# Altium integrated library AMP Serial Bus IEEE1394.IntLib: 7 symbols
Pins are listed as number, name and electrical type; pins without a type are passive.

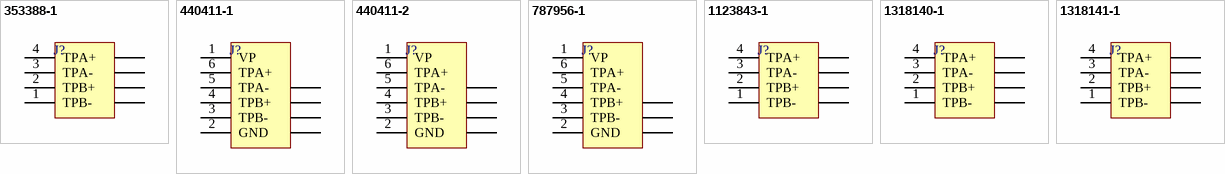
[diagram p0: symbols 353388-1 to 1318141-1]

## 353388-1
designator J?
IEEE1394, Vertical, Receptacle Header, DIP M1.6 Tap, 4 Position, 2.00 [.079] Termination Length; PCB_Layout: Complies with manufacturer's recommendation.; DrillSize: Corresponds to nominal value.; Published: 26-May-2004; LatestRevisionDate: 15-July-2004; LatestRevisionNote: Mounting hole pads re-numbered.; DatasheetDocument: 15-Jan-2004; PackageDocument: 15-Jan-2004; PackageReference: 353388-1; Publisher: Altium Limited; ComponentLink1Description: Manufacturer Link; ComponentLink1URL: http://www.tycoelectronics.com/; ComponentLink2Description: Packaging Specification; ComponentLink2URL: http://ecommas.tycoelectronics.com/commerce/DocumentDelivery/DDEController?Action=showdoc&DocId=Customer+Drawing%7F353388%7FH%7Ftif%7FJapanese%7FJPN_CD_353388_H.tif
footprint 353388-1 (Connector; IEEE1394, Thru-Hole; 4 Position; Vertical)
signal-integrity model IEEE1394
pins: 1 TPB- "Differential Twisted Pair", 2 TPB+ "Differential Twisted Pair", 3 TPA- "Differential Twisted Pair", 4 TPA+ "Differential Twisted Pair", 5 SHLD "Shield", 6 SHLD "Shield", 7 SHLD "Shield", 8 SHLD "Shield"

## 440411-1
designator J?
IEEE1394, Vertical, Receptacle Header, Thru-Hole, 6 Position, 2.70 [.106] Termination Length; PCB_Layout: Complies with manufacturer's recommendation.; DrillSize: Corresponds to nominal value.; Published: 26-May-2004; LatestRevisionDate: 15-July-2004; LatestRevisionNote: Mounting hole pads re-numbered.; DatasheetDocument: 28-Mar-2000; PackageDocument: 28-Mar-2000; PackageReference: 440411; Publisher: Altium Limited; ComponentLink1Description: Manufacturer Link; ComponentLink1URL: http://www.tycoelectronics.com/; ComponentLink2Description: Packaging Specification; ComponentLink2URL: http://ecommas.tycoelectronics.com/commerce/DocumentDelivery/DDEController?Action=showdoc&DocId=Customer+Drawing%7F440411%7FO%7Ftif%7FEnglish%7FC_440411_O.tif
footprint 440411 (Connector; IEEE1394, Thru-Hole; 6 Position; Vertical)
signal-integrity model IEEE1394
pins: 1 VP (power) "Power", 2 GND (power) "Ground", 3 TPB- "Differential Twisted Pair", 4 TPB+ "Differential Twisted Pair", 5 TPA- "Differential Twisted Pair", 6 TPA+ "Differential Twisted Pair", 7 SHLD "Shield", 8 SHLD "Shield", 9 SHLD "Shield", 10 SHLD "Shield"

## 440411-2
designator J?
IEEE1394, Vertical, Receptacle Header, Thru-Hole, 6 Position, 3.18 [.125] Termination Length; PCB_Layout: Complies with manufacturer's recommendation.; DrillSize: Corresponds to nominal value.; Published: 26-May-2004; LatestRevisionDate: 15-July-2004; LatestRevisionNote: Mounting hole pads re-numbered.; DatasheetDocument: 28-Mar-2000; PackageDocument: 28-Mar-2000; PackageReference: 440411; Publisher: Altium Limited; ComponentLink1Description: Manufacturer Link; ComponentLink1URL: http://www.tycoelectronics.com/; ComponentLink2Description: Packaging Specification; ComponentLink2URL: http://ecommas.tycoelectronics.com/commerce/DocumentDelivery/DDEController?Action=showdoc&DocId=Customer+Drawing%7F440411%7FO%7Ftif%7FEnglish%7FC_440411_O.tif
footprint 440411 (Connector; IEEE1394, Thru-Hole; 6 Position; Vertical)
signal-integrity model IEEE1394
pins: 1 VP (power) "Power", 2 GND (power) "Ground", 3 TPB- "Differential Twisted Pair", 4 TPB+ "Differential Twisted Pair", 5 TPA- "Differential Twisted Pair", 6 TPA+ "Differential Twisted Pair", 7 SHLD "Shield", 8 SHLD "Shield", 9 SHLD "Shield", 10 SHLD "Shield"

## 787956-1
designator J?
IEEE1394, Right Angle, Receptacle Header, Thru-Hole, 6 Position, 3.36 [.132] Termination Length; PCB_Layout: Complies with manufacturer's recommendation.; DrillSize: Corresponds to nominal value.; Published: 26-May-2004; LatestRevisionDate: 15-July-2004; LatestRevisionNote: Mounting hole pads re-numbered.; DatasheetDocument: 11-Jan-2004; PackageDocument: 11-Jan-2004; PackageReference: 787956-1; Publisher: Altium Limited; ComponentLink1Description: Manufacturer Link; ComponentLink1URL: http://www.tycoelectronics.com/; ComponentLink2Description: Packaging Specification; ComponentLink2URL: http://ecommas.tycoelectronics.com/commerce/DocumentDelivery/DDEController?Action=showdoc&DocId=Customer+Drawing%7F787956%7FK%7Ftif%7FEnglish%7FC_787956_K.tif
footprint 787956-1 (Connector; IEEE1394, Thru-Hole; 6 Position; Right Angle)
signal-integrity model IEEE1394
pins: 1 VP (power) "Power", 2 GND (power) "Ground", 3 TPB- "Differential Twisted Pair", 4 TPB+ "Differential Twisted Pair", 5 TPA- "Differential Twisted Pair", 6 TPA+ "Differential Twisted Pair", 7 SHLD "Shield", 8 SHLD "Shield", 9 SHLD "Shield"

## 1123843-1
designator J?
IEEE1394, Vertical, Receptacle Header, DIP M1.6 Tap, 4 Position, 3.85 [.151] Termination Length; PCB_Layout: Complies with manufacturer's recommendation.; DrillSize: Corresponds to nominal value.; Published: 26-May-2004; LatestRevisionDate: 15-July-2004; LatestRevisionNote: Mounting hole pads re-numbered.; DatasheetDocument: 15-Jan-2004; PackageDocument: 15-Jan-2004; PackageReference: 1123843-1; Publisher: Altium Limited; ComponentLink1Description: Manufacturer Link; ComponentLink1URL: http://www.tycoelectronics.com/; ComponentLink2Description: Packaging Specification; ComponentLink2URL: http://ecommas.tycoelectronics.com/commerce/DocumentDelivery/DDEController?Action=showdoc&DocId=Customer+Drawing%7F1123843%7FA%7Ftif%7FJapanese%7FJPN_CD_1123843_A.tif
footprint 1123843-1 (Connector; IEEE1394, Thru-Hole; 4 Position; Vertical)
signal-integrity model IEEE1394
pins: 1 TPB- "Differential Twisted Pair", 2 TPB+ "Differential Twisted Pair", 3 TPA- "Differential Twisted Pair", 4 TPA+ "Differential Twisted Pair", 5 SHLD "Shield", 6 SHLD "Shield", 7 SHLD "Shield", 8 SHLD "Shield"

## 1318140-1
designator J?
IEEE1394, Vertical, Receptacle Header, SMT M2.6 Tap, 4 Position, 3.36 [.132] Termination Length; PCB_Layout: Complies with manufacturer's recommendation.; DrillSize: Corresponds to nominal value.; Published: 26-May-2004; LatestRevisionDate: 15-July-2004; LatestRevisionNote: Mounting hole pads re-numbered.; DatasheetDocument: 15-Jan-2004; PackageDocument: 15-Jan-2004; PackageReference: 1318140-1; Publisher: Altium Limited; ComponentLink1Description: Manufacturer Link; ComponentLink1URL: http://www.tycoelectronics.com/; ComponentLink2Description: Packaging Specification; ComponentLink2URL: http://ecommas.tycoelectronics.com/commerce/DocumentDelivery/DDEController?Action=showdoc&DocId=Customer+Drawing%7F1318140%7FE%7Ftif%7FJapanese%7FJPN_CD_1318140_E.tif
footprint 1318140-1 (Connector; IEEE1394, SM; 4 Position; Vertical)
signal-integrity model IEEE1394
pins: 1 TPB- "Differential Twisted Pair", 2 TPB+ "Differential Twisted Pair", 3 TPA- "Differential Twisted Pair", 4 TPA+ "Differential Twisted Pair", 5 SHLD "Shield", 6 SHLD "Shield", 7 SHLD "Shield", 8 SHLD "Shield"

## 1318141-1
designator J?
IEEE1394, Vertical, Receptacle Header, SMT M1.6 Tap, 4 Position; PCB_Layout: Complies with manufacturer's recommendation.; DrillSize: Corresponds to nominal value.; Published: 26-May-2004; LatestRevisionDate: 15-July-2004; LatestRevisionNote: Mounting hole pads re-numbered.; DatasheetDocument: 15-Jan-2004; PackageDocument: 15-Jan-2004; PackageReference: 1318141-1; Publisher: Altium Limited; ComponentLink1Description: Manufacturer Link; ComponentLink1URL: http://www.tycoelectronics.com/; ComponentLink2Description: Packaging Specification; ComponentLink2URL: http://ecommas.tycoelectronics.com/commerce/DocumentDelivery/DDEController?Action=showdoc&DocId=Customer+Drawing%7F1318141%7FA%7Ftif%7FJapanese%7FJPN_CD_1318141_A.tif
footprint 1318141-1 (Connector; IEEE1394, SM; 4 Position; Vertical)
signal-integrity model IEEE1394
pins: 1 TPB- "Differential Twisted Pair", 2 TPB+ "Differential Twisted Pair", 3 TPA- "Differential Twisted Pair", 4 TPA+ "Differential Twisted Pair", 5 SHLD "Shield", 6 SHLD "Shield", 7 SHLD "Shield", 8 SHLD "Shield"